# Altium footprint library DIP8_SMD.PcbLib: 1 footprints
Each footprint in its own frame and in the unit in brackets; x right, y up, seen from the top. Pads: shape width x height; smd on the part's side, far side on the other; paste and mask are expansions set on the pad; w line width, h text height; cw(c..) or ccw(c..) is an arc to the next point about the centre after c.
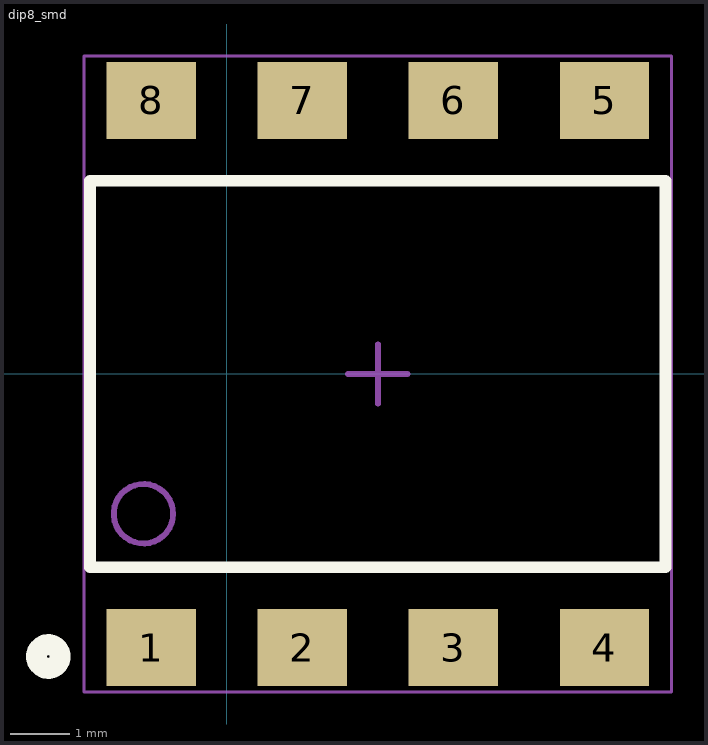
[diagram p0: the footprint, top view; thin cyan lines are the x and y axes]

## dip8_smd [mm]
pads (8):
  rect 1.5x1.3 smd: 1(-1.27,-4.6) 2(1.27,-4.6) 3(3.81,-4.6) 4(6.35,-4.6) 5(6.35,4.6) 6(3.81,4.6) 7(1.27,4.6) 8(-1.27,4.6)
Top Overlay:
  circle w0.35: c-3,-4.75 r0.2
  lines w0.2: -2.3,-3.25 -2.3,3.25 2.3,3.25 7.38,3.25 7.38,-3.25 2.3,-3.25 -2.3,-3.25
Mechanical 13:
  circle w0.1: c-1.4,-2.35 r0.5
  lines w0.1: 2.25,3.25 7.38,3.25 7.38,-3.25 2.78,-3.25 -2.3,-3.25 -2.3,3.25 2.3,3.25
Mechanical 15:
  lines w0.05: -2.4,-5.35 -2.4,5.35 2.68,5.35 7.48,5.35 7.48,-5.35 2.68,-5.35 -2.4,-5.35
  lines w0.1: 2.04,0 3.04,0 ; 2.54,-0.5 2.54,0.5
3D body "8_PIN_SMD_S1.STEP": height 3.66, standoff 0.06, extent -2.34,-5.075 7.42,5.075